# Altium schematic symbol library fet.SchLib: 9 symbols
Pins are listed as number, name and electrical type; pins without a type are passive.

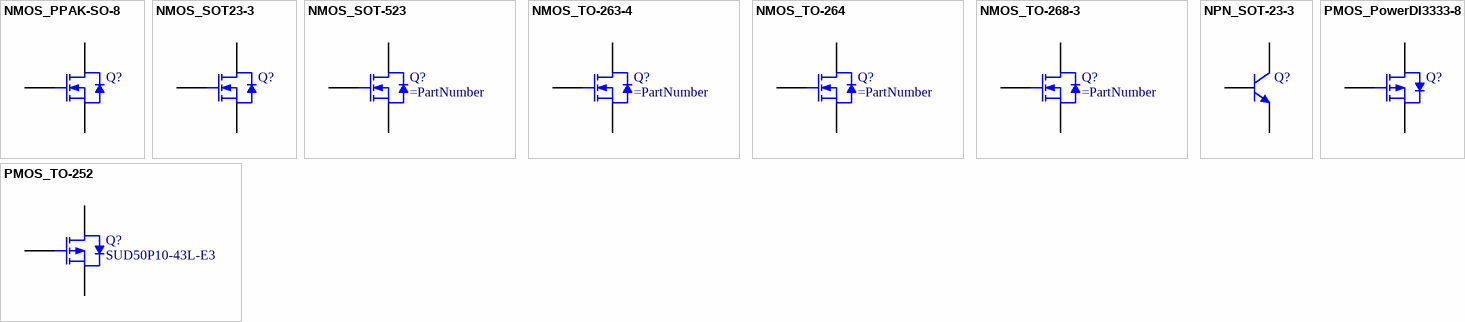
[diagram p0: symbols NMOS_PPAK-SO-8 to PMOS_TO-252]

## NMOS_PPAK-SO-8
designator Q?
footprint PPAK-SO-8
pins: 1 G, 2 S, 3 D

## NMOS_SOT23-3
designator Q?
Manufacturer 1: *; Manufacturer Part Number 1: *; Supplier 1: *; Supplier Part Number 1: *
footprint SOT23-3
pins: 1 G, 2 S, 3 D

## NMOS_SOT-523
designator Q?
MOSFET N-CH 20V 630MA SOT-523; Manufacturer Part Number 1: DMG1012T-7; Manufacturer 1: Diodes Incorporated; Supplier 1: Digi-Key; Supplier 1 Part Number: DMG1012T-7DICT-ND
footprint SOT-523
pins: 1 G, 2 S, 3 D

## NMOS_TO-263-4
designator Q?
Part Number: CSD18536KTTT; Manufacturer: Texas Instruments; Supplier 1: Digi-Key; Supplier 1 Part Number: 296-44122-1-ND
footprint TO-263-4
pins: 1 G, 2 S, 3 D

## NMOS_TO-264
designator Q?
Part Number: IXFK180N25T; Manufacturer: IXYS; Supplier 1: Digi-Key; Supplier 1 Part Number: IXFK180N25T-ND
footprint TO-264
pins: 1 G, 2 S, 3 D

## NMOS_TO-268-3
designator Q?
40V/440A TRENCHT4 PWR MOSFET TO-; Part Number: IXTT440N04T4HV; Manufacturer: IXYS; Supplier 1: Digi-Key; Supplier 1 Part Number: IXTT440N04T4HV-ND
footprint TO-268-3
pins: 1 G, 2 S, 3 D

## NPN_SOT-23-3
designator Q?
Manufacturer Part Number 1: *; Manufacturer 1: *; Supplier 1: *; Supplier Part Number 1: *
footprint SOT23-3
pins: 1 B, 2 E, 3 C

## PMOS_PowerDI3333-8
designator Q?
Manufacturer 1: *; Manufacturer Part Number 1: *; Supplier 1: *; Supplier Part Number 1: *
footprint PowerDI3333-8
pins: D, G, S

## PMOS_TO-252
designator Q?, comment SUD50P10-43L-E3
MOSFET P-CH 100V 37.1A TO252; Manufacturer 1: Vishay Siliconix; Manufacturer Part Number 1: SUD50P10-43L-E3; Supplier 1: Digi-Key; Supplier Part Number 1: SUD50P10-43L-E3CT-ND
footprint TO-252
pins: D, G, S